# EAGLE library part 219-07* (library switch-dil)
Surface Mount DIP Switch Series 219 SMT CTS Electronic Components Sourc: www.ctscorp.com
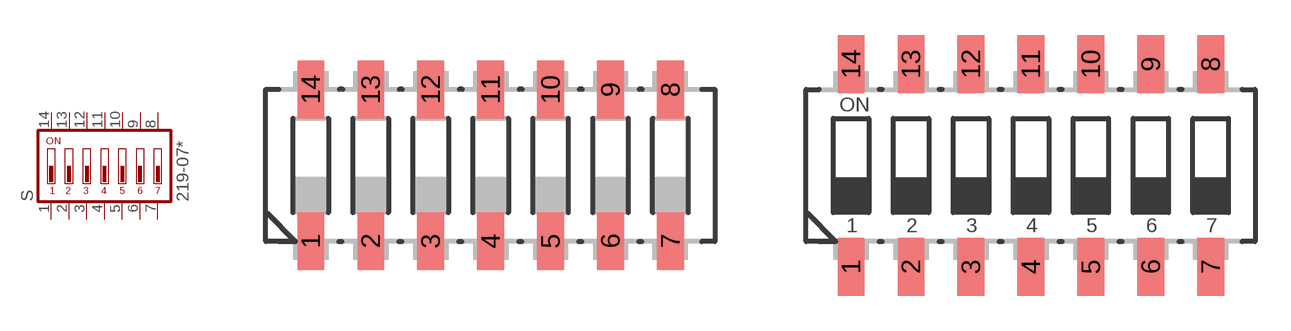
[diagram p62: symbol with the pads of CTS-219-07J; footprints CTS-219-07J, CTS-219-07]

Designator prefix S

## 219-07J  [CTS-219-07J]
1  1  pas
2  2  pas
3  3  pas
4  4  pas
5  5  pas
6  6  pas
7  7  pas
8  8  pas
9  9  pas
10  10  pas
11  11  pas
12  12  pas
13  13  pas
14  14  pas

## 219-07  [CTS-219-07]
Pads as for CTS-219-07J

## Footprint CTS-219-07J (pad centres in mm)
Surface Mount DIP Switch Series 219 SMT "J" Bend CTS Electronic Components Sourc: www.ctscorp.com
smd 1.13 x 2.44: 1 -7.62,-3.215; 2 -5.08,-3.215; 3 -2.54,-3.215; 4 0,-3.215; 5 2.54,-3.215; 6 5.08,-3.215; 7 7.62,-3.215; 8 7.62,3.215; 9 5.08,3.215; 10 2.54,3.215; 11 0,3.215; 12 -2.54,3.215; 13 -5.08,3.215; 14 -7.62,3.215

## Footprint CTS-219-07 (pad centres in mm)
Surface Mount DIP Switch Series 219 SMT CTS Electronic Components Sourc: www.ctscorp.com
smd 1.13 x 2.44: 1 -7.62,-4.3; 2 -5.08,-4.3; 3 -2.54,-4.3; 4 0,-4.3; 5 2.54,-4.3; 6 5.08,-4.3; 7 7.62,-4.3; 8 7.62,4.3; 9 5.08,4.3; 10 2.54,4.3; 11 0,4.3; 12 -2.54,4.3; 13 -5.08,4.3; 14 -7.62,4.3